# Altium integrated library TI Data Converters Digital to Analog Converter.IntLib: 1533 symbols (part 25 of 99)
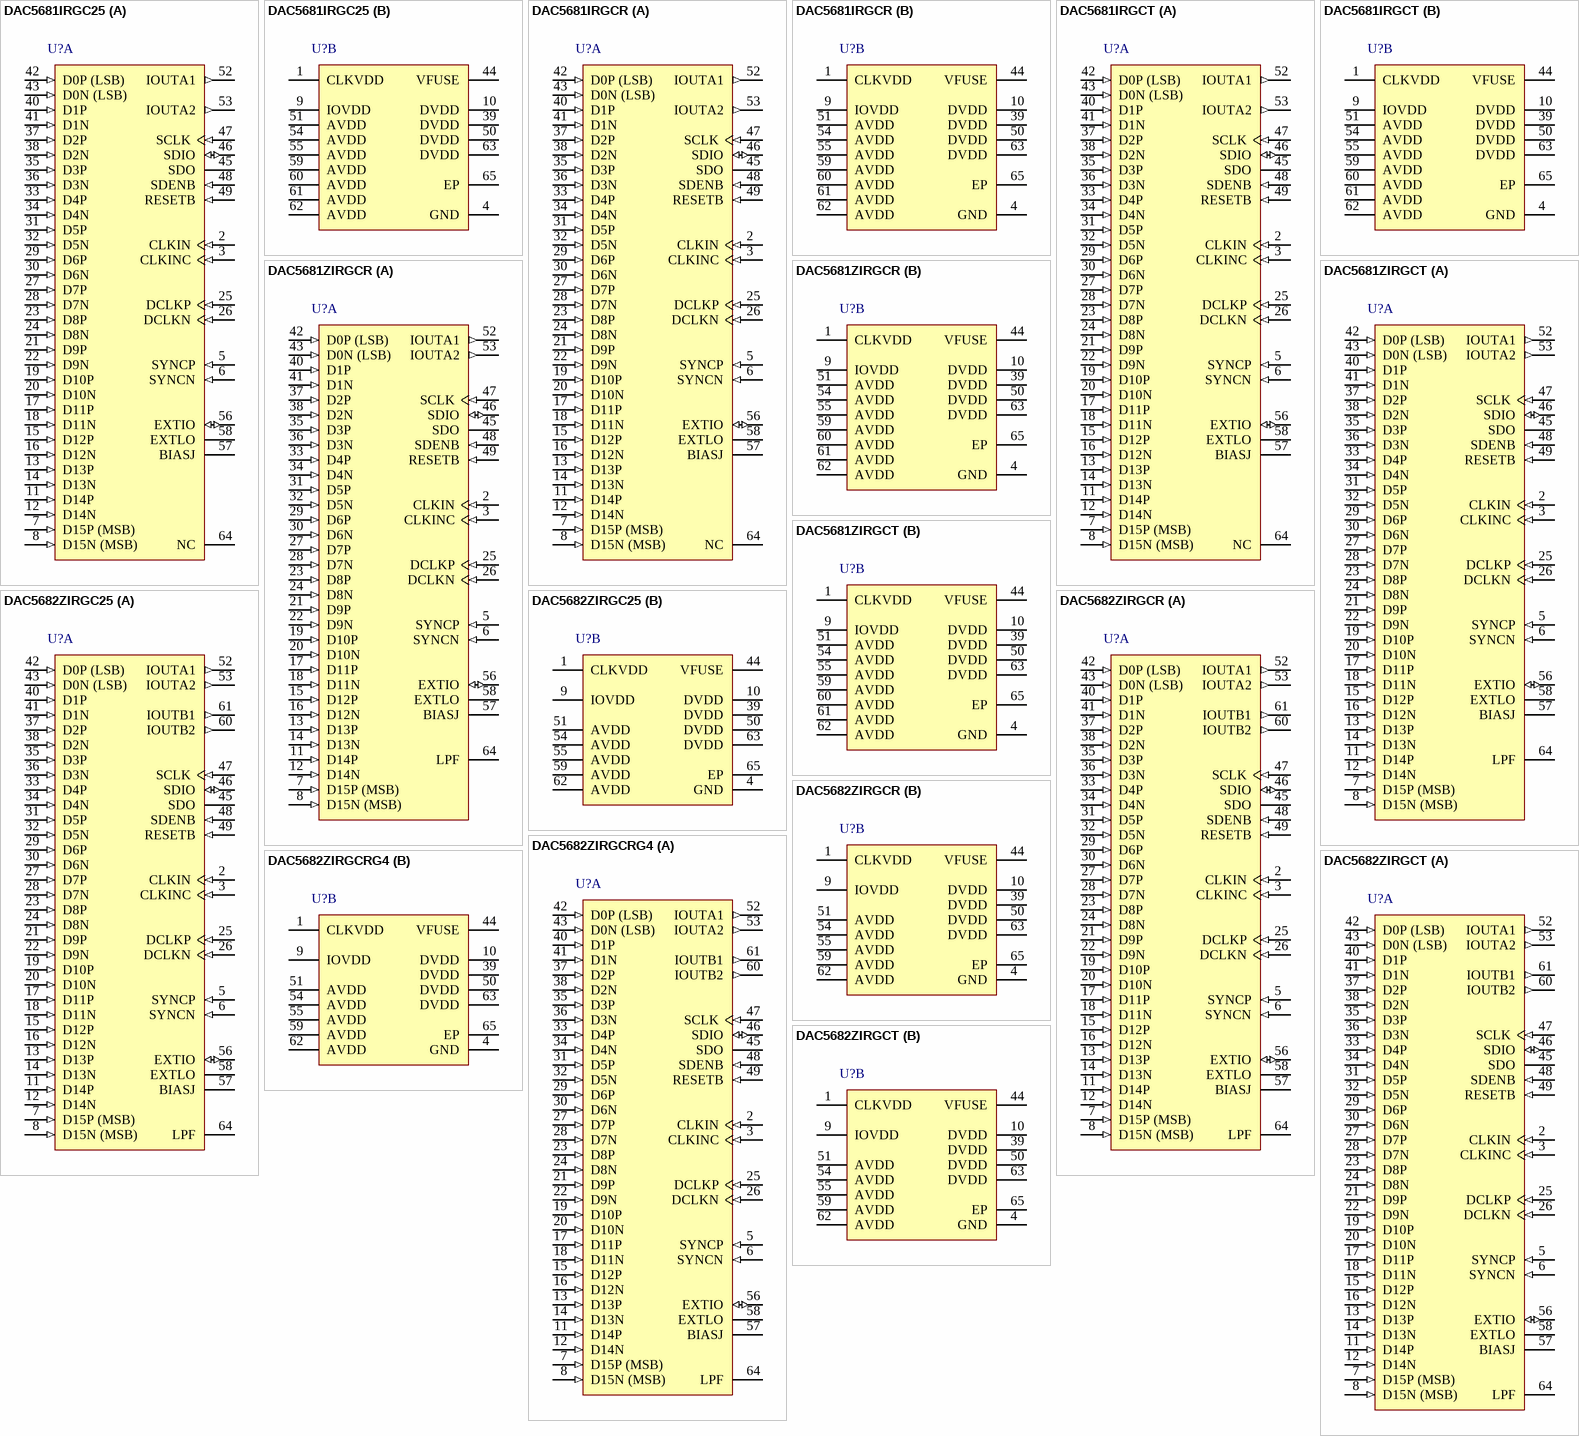
[diagram p97: symbols DAC5681IRGC25 to DAC5682ZIRGCT]

## DAC5682ZIRGC25
designator U?
16-Bit, 1 GSPS 2 x - 4 x Interpolating Dual-Channel DAC, -40 to 85 degC, 64-pin QFN (RGC64), Green (RoHS & no Sb/Br); Manufacturer: Texas Instruments; PartNumber: DAC5682ZIRGC25; DAC Channels: 2; Interface: Parallel LVDS; Power Consumption(Typ)(mW): 1310; Resolution(Bits): 16; Settling Time(us): 0.0104; SFDR(dB): 81; SNR(dB): 75; SubFamily: High Speed DAC (>10MSPS); DatasheetVersion: SLLS853E; PackageVersion: 4204106/F, 11/2011; PackageReference: RGC64-7400X7400TP; PackageDescription: 64-Pin Plastic Quad Flatpack No-Lead, Body 9 x 9 mm, Pitch 0.5 mm; Supplier 1: Digi-Key; Supplier Part Number 1: DAC5682ZIRGC25-ND; Supplier 2: Mouser; Supplier Part Number 2: 595-DAC5682ZIRGC25; Eco-Plan: Green (RoHS & no Sb/Br); Mounting Technology: Surface Mount; ComponentLink1Description: Manufacturer URL; ComponentLink1URL: http://www.ti.com/; ComponentLink2Description: Datasheet; ComponentLink2URL: http://www.ti.com/general/docs/lit/getliterature.tsp?genericPartNumber=DAC5682Z&fileType=pdf; ComponentLink3Description: Package Specification; ComponentLink3URL: http://www.ti.com/litv/pdf/mpqf125e
footprint TI-RGC64-7400X7400TP_V (QFN, 64-Leads, Body 9x9mm, Pitch 0.5mm, Thermal Pad 7.4x7.4mm, TI Recommended)
part A pins: 2 CLKIN (in) "Positive external clock input with a self-bias of approximately CLKVDD/2.", 3 CLKINC (in) "Complementary external clock input. (See the CLKIN description)", 5 SYNCP (in) "LVDS SYNC positive input data. The SYNCP/N LVDS pair has an internal 100 ohm termination resistor. By default, the SYNCP/N input must be logic ‘1’ to enable a DAC analog output. See the LVDS SYNCP/N Operation paragr(See Datasheet)", 6 SYNCN (in) "LVDS SYNC negative input data.", 7 D15P (MSB) (in) "LVDS positive input data bits 0 through 15.Each positive/negative LVDS pair has an internal 100 ohm termination resistor. Order of bus can be reversed via rev_bus bit in CONFIG5 register. Data format relative to DCLKP/N (See Datasheet)", 8 D15N (MSB) (in) "LVDS negative input data bits 0 through 15. (See D[15:0]P description above) D15N is most significant data bit (MSB) - pin 8   D0N is least significant data bit (LSB) - pin 43", 11 D14P (in) "LVDS positive input data bits 0 through 15.Each positive/negative LVDS pair has an internal 100 ohm termination resistor. Order of bus can be reversed via rev_bus bit in CONFIG5 register. Data format relative to DCLKP/N (See Datasheet)", 12 D14N (in) "LVDS negative input data bits 0 through 15. (See D[15:0]P description above) D15N is most significant data bit (MSB) - pin 8   D0N is least significant data bit (LSB) - pin 43", 13 D13P (in) "LVDS positive input data bits 0 through 15.Each positive/negative LVDS pair has an internal 100 ohm termination resistor. Order of bus can be reversed via rev_bus bit in CONFIG5 register. Data format relative to DCLKP/N (See Datasheet)", 14 D13N (in) "LVDS negative input data bits 0 through 15. (See D[15:0]P description above) D15N is most significant data bit (MSB) - pin 8   D0N is least significant data bit (LSB) - pin 43", 15 D12P (in) "LVDS positive input data bits 0 through 15.Each positive/negative LVDS pair has an internal 100 ohm termination resistor. Order of bus can be reversed via rev_bus bit in CONFIG5 register. Data format relative to DCLKP/N (See Datasheet)", 16 D12N (in) "LVDS negative input data bits 0 through 15. (See D[15:0]P description above) D15N is most significant data bit (MSB) - pin 8   D0N is least significant data bit (LSB) - pin 43", 17 D11P (in) "LVDS positive input data bits 0 through 15.Each positive/negative LVDS pair has an internal 100 ohm termination resistor. Order of bus can be reversed via rev_bus bit in CONFIG5 register. Data format relative to DCLKP/N (See Datasheet)", 18 D11N (in) "LVDS negative input data bits 0 through 15. (See D[15:0]P description above) D15N is most significant data bit (MSB) - pin 8   D0N is least significant data bit (LSB) - pin 43", 19 D10P (in) "LVDS positive input data bits 0 through 15.Each positive/negative LVDS pair has an internal 100 ohm termination resistor. Order of bus can be reversed via rev_bus bit in CONFIG5 register. Data format relative to DCLKP/N (See Datasheet)", 20 D10N (in) "LVDS negative input data bits 0 through 15. (See D[15:0]P description above) D15N is most significant data bit (MSB) - pin 8   D0N is least significant data bit (LSB) - pin 43", 21 D9P (in) "LVDS positive input data bits 0 through 15.Each positive/negative LVDS pair has an internal 100 ohm termination resistor. Order of bus can be reversed via rev_bus bit in CONFIG5 register. Data format relative to DCLKP/N (See Datasheet)", 22 D9N (in) "LVDS negative input data bits 0 through 15. (See D[15:0]P description above) D15N is most significant data bit (MSB) - pin 8   D0N is least significant data bit (LSB) - pin 43", 23 D8P (in) "LVDS positive input data bits 0 through 15.Each positive/negative LVDS pair has an internal 100 ohm termination resistor. Order of bus can be reversed via rev_bus bit in CONFIG5 register. Data format relative to DCLKP/N (See Datasheet)", 24 D8N (in) "LVDS negative input data bits 0 through 15. (See D[15:0]P description above) D15N is most significant data bit (MSB) - pin 8   D0N is least significant data bit (LSB) - pin 43", 25 DCLKP (in) "LVDS positive input clock. Unlike the other LVDS inputs, the DCLKP/N pair is self-biased to approximately DVDD/2 and does not have an internal termination resistor in order to optimize operation of the DLL circuit.See the (See Datasheet)", 26 DCLKN (in) "LVDS negative input clock. (See the DCLKP description)", 27 D7P (in) "LVDS positive input data bits 0 through 15.Each positive/negative LVDS pair has an internal 100 ohm termination resistor. Order of bus can be reversed via rev_bus bit in CONFIG5 register. Data format relative to DCLKP/N (See Datasheet)", 28 D7N (in) "LVDS negative input data bits 0 through 15. (See D[15:0]P description above) D15N is most significant data bit (MSB) - pin 8   D0N is least significant data bit (LSB) - pin 43", 29 D6P (in) "LVDS positive input data bits 0 through 15.Each positive/negative LVDS pair has an internal 100 ohm termination resistor. Order of bus can be reversed via rev_bus bit in CONFIG5 register. Data format relative to DCLKP/N (See Datasheet)", 30 D6N (in) "LVDS negative input data bits 0 through 15. (See D[15:0]P description above) D15N is most significant data bit (MSB) - pin 8   D0N is least significant data bit (LSB) - pin 43", 31 D5P (in) "LVDS positive input data bits 0 through 15.Each positive/negative LVDS pair has an internal 100 ohm termination resistor. Order of bus can be reversed via rev_bus bit in CONFIG5 register. Data format relative to DCLKP/N (See Datasheet)", 32 D5N (in) "LVDS negative input data bits 0 through 15. (See D[15:0]P description above) D15N is most significant data bit (MSB) - pin 8   D0N is least significant data bit (LSB) - pin 43", 33 D4P (in) "LVDS positive input data bits 0 through 15.Each positive/negative LVDS pair has an internal 100 ohm termination resistor. Order of bus can be reversed via rev_bus bit in CONFIG5 register. Data format relative to DCLKP/N (See Datasheet)", 34 D4N (in) "LVDS negative input data bits 0 through 15. (See D[15:0]P description above) D15N is most significant data bit (MSB) - pin 8   D0N is least significant data bit (LSB) - pin 43", 35 D3P (in) "LVDS positive input data bits 0 through 15.Each positive/negative LVDS pair has an internal 100 ohm termination resistor. Order of bus can be reversed via rev_bus bit in CONFIG5 register. Data format relative to DCLKP/N (See Datasheet)", 36 D3N (in) "LVDS negative input data bits 0 through 15. (See D[15:0]P description above) D15N is most significant data bit (MSB) - pin 8   D0N is least significant data bit (LSB) - pin 43", 37 D2P (in) "LVDS positive input data bits 0 through 15.Each positive/negative LVDS pair has an internal 100 ohm termination resistor. Order of bus can be reversed via rev_bus bit in CONFIG5 register. Data format relative to DCLKP/N (See Datasheet)", 38 D2N (in) "LVDS negative input data bits 0 through 15. (See D[15:0]P description above) D15N is most significant data bit (MSB) - pin 8   D0N is least significant data bit (LSB) - pin 43", 40 D1P (in) "LVDS positive input data bits 0 through 15.Each positive/negative LVDS pair has an internal 100 ohm termination resistor. Order of bus can be reversed via rev_bus bit in CONFIG5 register. Data format relative to DCLKP/N (See Datasheet)", 41 D1N (in) "LVDS negative input data bits 0 through 15. (See D[15:0]P description above) D15N is most significant data bit (MSB) - pin 8   D0N is least significant data bit (LSB) - pin 43", 42 D0P (LSB) (in) "LVDS positive input data bits 0 through 15.Each positive/negative LVDS pair has an internal 100 ohm termination resistor. Order of bus can be reversed via rev_bus bit in CONFIG5 register. Data format relative to DCLKP/N (See Datasheet)", 43 D0N (LSB) (in) "LVDS negative input data bits 0 through 15. (See D[15:0]P description above) D15N is most significant data bit (MSB) - pin 8   D0N is least significant data bit (LSB) - pin 43", 45 SDO (hiz) "Uni-directional serial interface data in 4-pin mode (CONFIG5 sif4). The SDO pin is in high-impedance state in 3-pin interface mode (default), but can optionally be used as a status output pin via CONFIG14 SDO_func_sel(2:0). (See Datasheet)", 46 SDIO (io) "Bi-directional serial interface data in 3-pin mode (default). In 4-pin interface mode (CONFIG5 sif4), the SDIO pin is an input only. Internal pull-down.", 47 SCLK (in) "Serial interface clock. Internal pull-down", 48 SDENB (in) "Active low serial data enable, always an input to the DAC5681. Internal pull-up.", 49 RESETB (in) "Resets the chip when low. Internal pull-up.", 52 IOUTA1 (out) "DAC current output. An offset binary data pattern of 0x0000 at the DAC input results in a full scale current sink and the least positive voltage on the IOUTA1 pin. Similarly, a 0xFFFF data input results in a 0 mA current (See Datasheet)", 53 IOUTA2 (out) "DAC complementary current output. The IOUTA2 has the opposite behavior of the IOUTA1 described above. An input data value of 0x0000 results in a 0mA sink and the most positive voltage on the IOUTA2 pin.", 56 EXTIO (io) "Used as external reference input when internal reference is disabled (i.e., EXTLO connected to AVDD). Used as 1.2V internal reference output when EXTLO = GND, requires a 0.1 uF decoupling capacitor to AGND when used as (See Datasheet)", 57 BIASJ "Full-scale output current bias. For 20mA full-scale output current, connect a 960 ohm resistor to GND.", 58 EXTLO "Connect to GND for internal reference, or AVDD for external reference.", 60 IOUTB2 (out) "B-Channel DAC complementary current output. See the IOUTA2 description above.", 61 IOUTB1 (out) "B-Channel DAC current output. See the IOUTA1 description above.", 64 LPF "PLL loop filter connection. If not using the clock multiplying PLL, the LPF pin may be left open. Set both PLL_bypass and PLL_sleep control bits for reduced power dissipation."
part B pins: 1 CLKVDD (power) "Internal clock buffer supply voltage. (1.8 V)", 4 GND (power) "Pin 4 and the Thermal Pad located on the bottom of the QFN package is ground for AVDD, DVDD and IOVDD supplies.", 9 IOVDD (power) "Digital I/O supply voltage (3.3V) for pins RESETB, SCLK, SDENB, SDIO, SDO.", 10 DVDD (power) "Digital supply voltage. (1.8 V)", 39 DVDD (power) "Digital supply voltage. (1.8 V)", 44 VFUSE (power) "Digital supply voltage. (1.8V) Connect to DVDD pins for normal operation. This supply pin is also used for factory fuse programming.", 50 DVDD (power) "Digital supply voltage. (1.8 V)", 51 AVDD (power) "Analog supply voltage. (3.3V)", 54 AVDD (power) "Analog supply voltage. (3.3V)", 55 AVDD (power) "Analog supply voltage. (3.3V)", 59 AVDD (power) "Analog supply voltage. (3.3V)", 62 AVDD (power) "Analog supply voltage. (3.3V)", 63 DVDD (power) "Digital supply voltage. (1.8 V)", 65 EP (power) "Pin 4 and the Thermal Pad located on the bottom of the QFN package is ground for AVDD, DVDD and IOVDD supplies."

## DAC5682ZIRGCR
designator U?
16-Bit, 1 GSPS 2 x - 4 x Interpolating Dual-Channel DAC, -40 to 85 degC, 64-pin QFN (RGC64), Green (RoHS & no Sb/Br); Manufacturer: Texas Instruments; PartNumber: DAC5682ZIRGCR; DAC Channels: 2; Interface: Parallel LVDS; Power Consumption(Typ)(mW): 1310; Resolution(Bits): 16; Settling Time(us): 0.0104; SFDR(dB): 81; SNR(dB): 75; SubFamily: High Speed DAC (>10MSPS); DatasheetVersion: SLLS853E; PackageVersion: 4204106/F, 11/2011; PackageReference: RGC64-7400X7400TP; PackageDescription: 64-Pin Plastic Quad Flatpack No-Lead, Body 9 x 9 mm, Pitch 0.5 mm; Supplier 1: Digi-Key; Supplier Part Number 1: DAC5682ZIRGCR-ND; Supplier 2: Newark; Supplier Part Number 2: 65M0701; Supplier 3: Mouser; Supplier Part Number 3: 595-DAC5682ZIRGCR; Eco-Plan: Green (RoHS & no Sb/Br); Mounting Technology: Surface Mount; ComponentLink1Description: Manufacturer URL; ComponentLink1URL: http://www.ti.com/; ComponentLink2Description: Datasheet; ComponentLink2URL: http://www.ti.com/general/docs/lit/getliterature.tsp?genericPartNumber=DAC5682Z&fileType=pdf; ComponentLink3Description: Package Specification; ComponentLink3URL: http://www.ti.com/litv/pdf/mpqf125e
footprint TI-RGC64-7400X7400TP_V (QFN, 64-Leads, Body 9x9mm, Pitch 0.5mm, Thermal Pad 7.4x7.4mm, TI Recommended)
part A pins: 2 CLKIN (in) "Positive external clock input with a self-bias of approximately CLKVDD/2.", 3 CLKINC (in) "Complementary external clock input. (See the CLKIN description)", 5 SYNCP (in) "LVDS SYNC positive input data. The SYNCP/N LVDS pair has an internal 100 ohm termination resistor. By default, the SYNCP/N input must be logic ‘1’ to enable a DAC analog output. See the LVDS SYNCP/N Operation paragr(See Datasheet)", 6 SYNCN (in) "LVDS SYNC negative input data.", 7 D15P (MSB) (in) "LVDS positive input data bits 0 through 15.Each positive/negative LVDS pair has an internal 100 ohm termination resistor. Order of bus can be reversed via rev_bus bit in CONFIG5 register. Data format relative to DCLKP/N (See Datasheet)", 8 D15N (MSB) (in) "LVDS negative input data bits 0 through 15. (See D[15:0]P description above) D15N is most significant data bit (MSB) - pin 8   D0N is least significant data bit (LSB) - pin 43", 11 D14P (in) "LVDS positive input data bits 0 through 15.Each positive/negative LVDS pair has an internal 100 ohm termination resistor. Order of bus can be reversed via rev_bus bit in CONFIG5 register. Data format relative to DCLKP/N (See Datasheet)", 12 D14N (in) "LVDS negative input data bits 0 through 15. (See D[15:0]P description above) D15N is most significant data bit (MSB) - pin 8   D0N is least significant data bit (LSB) - pin 43", 13 D13P (in) "LVDS positive input data bits 0 through 15.Each positive/negative LVDS pair has an internal 100 ohm termination resistor. Order of bus can be reversed via rev_bus bit in CONFIG5 register. Data format relative to DCLKP/N (See Datasheet)", 14 D13N (in) "LVDS negative input data bits 0 through 15. (See D[15:0]P description above) D15N is most significant data bit (MSB) - pin 8   D0N is least significant data bit (LSB) - pin 43", 15 D12P (in) "LVDS positive input data bits 0 through 15.Each positive/negative LVDS pair has an internal 100 ohm termination resistor. Order of bus can be reversed via rev_bus bit in CONFIG5 register. Data format relative to DCLKP/N (See Datasheet)", 16 D12N (in) "LVDS negative input data bits 0 through 15. (See D[15:0]P description above) D15N is most significant data bit (MSB) - pin 8   D0N is least significant data bit (LSB) - pin 43", 17 D11P (in) "LVDS positive input data bits 0 through 15.Each positive/negative LVDS pair has an internal 100 ohm termination resistor. Order of bus can be reversed via rev_bus bit in CONFIG5 register. Data format relative to DCLKP/N (See Datasheet)", 18 D11N (in) "LVDS negative input data bits 0 through 15. (See D[15:0]P description above) D15N is most significant data bit (MSB) - pin 8   D0N is least significant data bit (LSB) - pin 43", 19 D10P (in) "LVDS positive input data bits 0 through 15.Each positive/negative LVDS pair has an internal 100 ohm termination resistor. Order of bus can be reversed via rev_bus bit in CONFIG5 register. Data format relative to DCLKP/N (See Datasheet)", 20 D10N (in) "LVDS negative input data bits 0 through 15. (See D[15:0]P description above) D15N is most significant data bit (MSB) - pin 8   D0N is least significant data bit (LSB) - pin 43", 21 D9P (in) "LVDS positive input data bits 0 through 15.Each positive/negative LVDS pair has an internal 100 ohm termination resistor. Order of bus can be reversed via rev_bus bit in CONFIG5 register. Data format relative to DCLKP/N (See Datasheet)", 22 D9N (in) "LVDS negative input data bits 0 through 15. (See D[15:0]P description above) D15N is most significant data bit (MSB) - pin 8   D0N is least significant data bit (LSB) - pin 43", 23 D8P (in) "LVDS positive input data bits 0 through 15.Each positive/negative LVDS pair has an internal 100 ohm termination resistor. Order of bus can be reversed via rev_bus bit in CONFIG5 register. Data format relative to DCLKP/N (See Datasheet)", 24 D8N (in) "LVDS negative input data bits 0 through 15. (See D[15:0]P description above) D15N is most significant data bit (MSB) - pin 8   D0N is least significant data bit (LSB) - pin 43", 25 DCLKP (in) "LVDS positive input clock. Unlike the other LVDS inputs, the DCLKP/N pair is self-biased to approximately DVDD/2 and does not have an internal termination resistor in order to optimize operation of the DLL circuit.See the (See Datasheet)", 26 DCLKN (in) "LVDS negative input clock. (See the DCLKP description)", 27 D7P (in) "LVDS positive input data bits 0 through 15.Each positive/negative LVDS pair has an internal 100 ohm termination resistor. Order of bus can be reversed via rev_bus bit in CONFIG5 register. Data format relative to DCLKP/N (See Datasheet)", 28 D7N (in) "LVDS negative input data bits 0 through 15. (See D[15:0]P description above) D15N is most significant data bit (MSB) - pin 8   D0N is least significant data bit (LSB) - pin 43", 29 D6P (in) "LVDS positive input data bits 0 through 15.Each positive/negative LVDS pair has an internal 100 ohm termination resistor. Order of bus can be reversed via rev_bus bit in CONFIG5 register. Data format relative to DCLKP/N (See Datasheet)", 30 D6N (in) "LVDS negative input data bits 0 through 15. (See D[15:0]P description above) D15N is most significant data bit (MSB) - pin 8   D0N is least significant data bit (LSB) - pin 43", 31 D5P (in) "LVDS positive input data bits 0 through 15.Each positive/negative LVDS pair has an internal 100 ohm termination resistor. Order of bus can be reversed via rev_bus bit in CONFIG5 register. Data format relative to DCLKP/N (See Datasheet)", 32 D5N (in) "LVDS negative input data bits 0 through 15. (See D[15:0]P description above) D15N is most significant data bit (MSB) - pin 8   D0N is least significant data bit (LSB) - pin 43", 33 D4P (in) "LVDS positive input data bits 0 through 15.Each positive/negative LVDS pair has an internal 100 ohm termination resistor. Order of bus can be reversed via rev_bus bit in CONFIG5 register. Data format relative to DCLKP/N (See Datasheet)", 34 D4N (in) "LVDS negative input data bits 0 through 15. (See D[15:0]P description above) D15N is most significant data bit (MSB) - pin 8   D0N is least significant data bit (LSB) - pin 43", 35 D3P (in) "LVDS positive input data bits 0 through 15.Each positive/negative LVDS pair has an internal 100 ohm termination resistor. Order of bus can be reversed via rev_bus bit in CONFIG5 register. Data format relative to DCLKP/N (See Datasheet)", 36 D3N (in) "LVDS negative input data bits 0 through 15. (See D[15:0]P description above) D15N is most significant data bit (MSB) - pin 8   D0N is least significant data bit (LSB) - pin 43", 37 D2P (in) "LVDS positive input data bits 0 through 15.Each positive/negative LVDS pair has an internal 100 ohm termination resistor. Order of bus can be reversed via rev_bus bit in CONFIG5 register. Data format relative to DCLKP/N (See Datasheet)", 38 D2N (in) "LVDS negative input data bits 0 through 15. (See D[15:0]P description above) D15N is most significant data bit (MSB) - pin 8   D0N is least significant data bit (LSB) - pin 43", 40 D1P (in) "LVDS positive input data bits 0 through 15.Each positive/negative LVDS pair has an internal 100 ohm termination resistor. Order of bus can be reversed via rev_bus bit in CONFIG5 register. Data format relative to DCLKP/N (See Datasheet)", 41 D1N (in) "LVDS negative input data bits 0 through 15. (See D[15:0]P description above) D15N is most significant data bit (MSB) - pin 8   D0N is least significant data bit (LSB) - pin 43", 42 D0P (LSB) (in) "LVDS positive input data bits 0 through 15.Each positive/negative LVDS pair has an internal 100 ohm termination resistor. Order of bus can be reversed via rev_bus bit in CONFIG5 register. Data format relative to DCLKP/N (See Datasheet)", 43 D0N (LSB) (in) "LVDS negative input data bits 0 through 15. (See D[15:0]P description above) D15N is most significant data bit (MSB) - pin 8   D0N is least significant data bit (LSB) - pin 43", 45 SDO (hiz) "Uni-directional serial interface data in 4-pin mode (CONFIG5 sif4). The SDO pin is in high-impedance state in 3-pin interface mode (default), but can optionally be used as a status output pin via CONFIG14 SDO_func_sel(2:0). (See Datasheet)", 46 SDIO (io) "Bi-directional serial interface data in 3-pin mode (default). In 4-pin interface mode (CONFIG5 sif4), the SDIO pin is an input only. Internal pull-down.", 47 SCLK (in) "Serial interface clock. Internal pull-down", 48 SDENB (in) "Active low serial data enable, always an input to the DAC5681. Internal pull-up.", 49 RESETB (in) "Resets the chip when low. Internal pull-up.", 52 IOUTA1 (out) "DAC current output. An offset binary data pattern of 0x0000 at the DAC input results in a full scale current sink and the least positive voltage on the IOUTA1 pin. Similarly, a 0xFFFF data input results in a 0 mA current (See Datasheet)", 53 IOUTA2 (out) "DAC complementary current output. The IOUTA2 has the opposite behavior of the IOUTA1 described above. An input data value of 0x0000 results in a 0mA sink and the most positive voltage on the IOUTA2 pin.", 56 EXTIO (io) "Used as external reference input when internal reference is disabled (i.e., EXTLO connected to AVDD). Used as 1.2V internal reference output when EXTLO = GND, requires a 0.1 uF decoupling capacitor to AGND when used as (See Datasheet)", 57 BIASJ "Full-scale output current bias. For 20mA full-scale output current, connect a 960 ohm resistor to GND.", 58 EXTLO "Connect to GND for internal reference, or AVDD for external reference.", 60 IOUTB2 (out) "B-Channel DAC complementary current output. See the IOUTA2 description above.", 61 IOUTB1 (out) "B-Channel DAC current output. See the IOUTA1 description above.", 64 LPF "PLL loop filter connection. If not using the clock multiplying PLL, the LPF pin may be left open. Set both PLL_bypass and PLL_sleep control bits for reduced power dissipation."
part B pins: 1 CLKVDD (power) "Internal clock buffer supply voltage. (1.8 V)", 4 GND (power) "Pin 4 and the Thermal Pad located on the bottom of the QFN package is ground for AVDD, DVDD and IOVDD supplies.", 9 IOVDD (power) "Digital I/O supply voltage (3.3V) for pins RESETB, SCLK, SDENB, SDIO, SDO.", 10 DVDD (power) "Digital supply voltage. (1.8 V)", 39 DVDD (power) "Digital supply voltage. (1.8 V)", 44 VFUSE (power) "Digital supply voltage. (1.8V) Connect to DVDD pins for normal operation. This supply pin is also used for factory fuse programming.", 50 DVDD (power) "Digital supply voltage. (1.8 V)", 51 AVDD (power) "Analog supply voltage. (3.3V)", 54 AVDD (power) "Analog supply voltage. (3.3V)", 55 AVDD (power) "Analog supply voltage. (3.3V)", 59 AVDD (power) "Analog supply voltage. (3.3V)", 62 AVDD (power) "Analog supply voltage. (3.3V)", 63 DVDD (power) "Digital supply voltage. (1.8 V)", 65 EP (power) "Pin 4 and the Thermal Pad located on the bottom of the QFN package is ground for AVDD, DVDD and IOVDD supplies."

## DAC5682ZIRGCRG4
designator U?
16-Bit, 1 GSPS 2 x - 4 x Interpolating Dual-Channel DAC, -40 to 85 degC, 64-pin QFN (RGC64), Green (RoHS & no Sb/Br); Manufacturer: Texas Instruments; PartNumber: DAC5682ZIRGCRG4; DAC Channels: 2; Interface: Parallel LVDS; Power Consumption(Typ)(mW): 1310; Resolution(Bits): 16; Settling Time(us): 0.0104; SFDR(dB): 81; SNR(dB): 75; SubFamily: High Speed DAC (>10MSPS); DatasheetVersion: SLLS853E; PackageVersion: 4204106/F, 11/2011; PackageReference: RGC64-7400X7400TP; PackageDescription: 64-Pin Plastic Quad Flatpack No-Lead, Body 9 x 9 mm, Pitch 0.5 mm; Supplier 1: Digi-Key; Supplier Part Number 1: DAC5682ZIRGCRG4-ND; Supplier 2: Mouser; Supplier Part Number 2: 595-DAC5682ZIRGCRG4; Eco-Plan: Green (RoHS & no Sb/Br); Mounting Technology: Surface Mount; ComponentLink1Description: Manufacturer URL; ComponentLink1URL: http://www.ti.com/; ComponentLink2Description: Datasheet; ComponentLink2URL: http://www.ti.com/general/docs/lit/getliterature.tsp?genericPartNumber=DAC5682Z&fileType=pdf; ComponentLink3Description: Package Specification; ComponentLink3URL: http://www.ti.com/litv/pdf/mpqf125e
footprint TI-RGC64-7400X7400TP_V (QFN, 64-Leads, Body 9x9mm, Pitch 0.5mm, Thermal Pad 7.4x7.4mm, TI Recommended)
part A pins: 2 CLKIN (in) "Positive external clock input with a self-bias of approximately CLKVDD/2.", 3 CLKINC (in) "Complementary external clock input. (See the CLKIN description)", 5 SYNCP (in) "LVDS SYNC positive input data. The SYNCP/N LVDS pair has an internal 100 ohm termination resistor. By default, the SYNCP/N input must be logic ‘1’ to enable a DAC analog output. See the LVDS SYNCP/N Operation paragr(See Datasheet)", 6 SYNCN (in) "LVDS SYNC negative input data.", 7 D15P (MSB) (in) "LVDS positive input data bits 0 through 15.Each positive/negative LVDS pair has an internal 100 ohm termination resistor. Order of bus can be reversed via rev_bus bit in CONFIG5 register. Data format relative to DCLKP/N (See Datasheet)", 8 D15N (MSB) (in) "LVDS negative input data bits 0 through 15. (See D[15:0]P description above) D15N is most significant data bit (MSB) - pin 8   D0N is least significant data bit (LSB) - pin 43", 11 D14P (in) "LVDS positive input data bits 0 through 15.Each positive/negative LVDS pair has an internal 100 ohm termination resistor. Order of bus can be reversed via rev_bus bit in CONFIG5 register. Data format relative to DCLKP/N (See Datasheet)", 12 D14N (in) "LVDS negative input data bits 0 through 15. (See D[15:0]P description above) D15N is most significant data bit (MSB) - pin 8   D0N is least significant data bit (LSB) - pin 43", 13 D13P (in) "LVDS positive input data bits 0 through 15.Each positive/negative LVDS pair has an internal 100 ohm termination resistor. Order of bus can be reversed via rev_bus bit in CONFIG5 register. Data format relative to DCLKP/N (See Datasheet)", 14 D13N (in) "LVDS negative input data bits 0 through 15. (See D[15:0]P description above) D15N is most significant data bit (MSB) - pin 8   D0N is least significant data bit (LSB) - pin 43", 15 D12P (in) "LVDS positive input data bits 0 through 15.Each positive/negative LVDS pair has an internal 100 ohm termination resistor. Order of bus can be reversed via rev_bus bit in CONFIG5 register. Data format relative to DCLKP/N (See Datasheet)", 16 D12N (in) "LVDS negative input data bits 0 through 15. (See D[15:0]P description above) D15N is most significant data bit (MSB) - pin 8   D0N is least significant data bit (LSB) - pin 43", 17 D11P (in) "LVDS positive input data bits 0 through 15.Each positive/negative LVDS pair has an internal 100 ohm termination resistor. Order of bus can be reversed via rev_bus bit in CONFIG5 register. Data format relative to DCLKP/N (See Datasheet)", 18 D11N (in) "LVDS negative input data bits 0 through 15. (See D[15:0]P description above) D15N is most significant data bit (MSB) - pin 8   D0N is least significant data bit (LSB) - pin 43", 19 D10P (in) "LVDS positive input data bits 0 through 15.Each positive/negative LVDS pair has an internal 100 ohm termination resistor. Order of bus can be reversed via rev_bus bit in CONFIG5 register. Data format relative to DCLKP/N (See Datasheet)", 20 D10N (in) "LVDS negative input data bits 0 through 15. (See D[15:0]P description above) D15N is most significant data bit (MSB) - pin 8   D0N is least significant data bit (LSB) - pin 43", 21 D9P (in) "LVDS positive input data bits 0 through 15.Each positive/negative LVDS pair has an internal 100 ohm termination resistor. Order of bus can be reversed via rev_bus bit in CONFIG5 register. Data format relative to DCLKP/N (See Datasheet)", 22 D9N (in) "LVDS negative input data bits 0 through 15. (See D[15:0]P description above) D15N is most significant data bit (MSB) - pin 8   D0N is least significant data bit (LSB) - pin 43", 23 D8P (in) "LVDS positive input data bits 0 through 15.Each positive/negative LVDS pair has an internal 100 ohm termination resistor. Order of bus can be reversed via rev_bus bit in CONFIG5 register. Data format relative to DCLKP/N (See Datasheet)", 24 D8N (in) "LVDS negative input data bits 0 through 15. (See D[15:0]P description above) D15N is most significant data bit (MSB) - pin 8   D0N is least significant data bit (LSB) - pin 43", 25 DCLKP (in) "LVDS positive input clock. Unlike the other LVDS inputs, the DCLKP/N pair is self-biased to approximately DVDD/2 and does not have an internal termination resistor in order to optimize operation of the DLL circuit.See the (See Datasheet)", 26 DCLKN (in) "LVDS negative input clock. (See the DCLKP description)", 27 D7P (in) "LVDS positive input data bits 0 through 15.Each positive/negative LVDS pair has an internal 100 ohm termination resistor. Order of bus can be reversed via rev_bus bit in CONFIG5 register. Data format relative to DCLKP/N (See Datasheet)", 28 D7N (in) "LVDS negative input data bits 0 through 15. (See D[15:0]P description above) D15N is most significant data bit (MSB) - pin 8   D0N is least significant data bit (LSB) - pin 43", 29 D6P (in) "LVDS positive input data bits 0 through 15.Each positive/negative LVDS pair has an internal 100 ohm termination resistor. Order of bus can be reversed via rev_bus bit in CONFIG5 register. Data format relative to DCLKP/N (See Datasheet)", 30 D6N (in) "LVDS negative input data bits 0 through 15. (See D[15:0]P description above) D15N is most significant data bit (MSB) - pin 8   D0N is least significant data bit (LSB) - pin 43", 31 D5P (in) "LVDS positive input data bits 0 through 15.Each positive/negative LVDS pair has an internal 100 ohm termination resistor. Order of bus can be reversed via rev_bus bit in CONFIG5 register. Data format relative to DCLKP/N (See Datasheet)", 32 D5N (in) "LVDS negative input data bits 0 through 15. (See D[15:0]P description above) D15N is most significant data bit (MSB) - pin 8   D0N is least significant data bit (LSB) - pin 43", 33 D4P (in) "LVDS positive input data bits 0 through 15.Each positive/negative LVDS pair has an internal 100 ohm termination resistor. Order of bus can be reversed via rev_bus bit in CONFIG5 register. Data format relative to DCLKP/N (See Datasheet)", 34 D4N (in) "LVDS negative input data bits 0 through 15. (See D[15:0]P description above) D15N is most significant data bit (MSB) - pin 8   D0N is least significant data bit (LSB) - pin 43", 35 D3P (in) "LVDS positive input data bits 0 through 15.Each positive/negative LVDS pair has an internal 100 ohm termination resistor. Order of bus can be reversed via rev_bus bit in CONFIG5 register. Data format relative to DCLKP/N (See Datasheet)", 36 D3N (in) "LVDS negative input data bits 0 through 15. (See D[15:0]P description above) D15N is most significant data bit (MSB) - pin 8   D0N is least significant data bit (LSB) - pin 43", 37 D2P (in) "LVDS positive input data bits 0 through 15.Each positive/negative LVDS pair has an internal 100 ohm termination resistor. Order of bus can be reversed via rev_bus bit in CONFIG5 register. Data format relative to DCLKP/N (See Datasheet)", 38 D2N (in) "LVDS negative input data bits 0 through 15. (See D[15:0]P description above) D15N is most significant data bit (MSB) - pin 8   D0N is least significant data bit (LSB) - pin 43", 40 D1P (in) "LVDS positive input data bits 0 through 15.Each positive/negative LVDS pair has an internal 100 ohm termination resistor. Order of bus can be reversed via rev_bus bit in CONFIG5 register. Data format relative to DCLKP/N (See Datasheet)", 41 D1N (in) "LVDS negative input data bits 0 through 15. (See D[15:0]P description above) D15N is most significant data bit (MSB) - pin 8   D0N is least significant data bit (LSB) - pin 43", 42 D0P (LSB) (in) "LVDS positive input data bits 0 through 15.Each positive/negative LVDS pair has an internal 100 ohm termination resistor. Order of bus can be reversed via rev_bus bit in CONFIG5 register. Data format relative to DCLKP/N (See Datasheet)", 43 D0N (LSB) (in) "LVDS negative input data bits 0 through 15. (See D[15:0]P description above) D15N is most significant data bit (MSB) - pin 8   D0N is least significant data bit (LSB) - pin 43", 45 SDO (hiz) "Uni-directional serial interface data in 4-pin mode (CONFIG5 sif4). The SDO pin is in high-impedance state in 3-pin interface mode (default), but can optionally be used as a status output pin via CONFIG14 SDO_func_sel(2:0). (See Datasheet)", 46 SDIO (io) "Bi-directional serial interface data in 3-pin mode (default). In 4-pin interface mode (CONFIG5 sif4), the SDIO pin is an input only. Internal pull-down.", 47 SCLK (in) "Serial interface clock. Internal pull-down", 48 SDENB (in) "Active low serial data enable, always an input to the DAC5681. Internal pull-up.", 49 RESETB (in) "Resets the chip when low. Internal pull-up.", 52 IOUTA1 (out) "DAC current output. An offset binary data pattern of 0x0000 at the DAC input results in a full scale current sink and the least positive voltage on the IOUTA1 pin. Similarly, a 0xFFFF data input results in a 0 mA current (See Datasheet)", 53 IOUTA2 (out) "DAC complementary current output. The IOUTA2 has the opposite behavior of the IOUTA1 described above. An input data value of 0x0000 results in a 0mA sink and the most positive voltage on the IOUTA2 pin.", 56 EXTIO (io) "Used as external reference input when internal reference is disabled (i.e., EXTLO connected to AVDD). Used as 1.2V internal reference output when EXTLO = GND, requires a 0.1 uF decoupling capacitor to AGND when used as (See Datasheet)", 57 BIASJ "Full-scale output current bias. For 20mA full-scale output current, connect a 960 ohm resistor to GND.", 58 EXTLO "Connect to GND for internal reference, or AVDD for external reference.", 60 IOUTB2 (out) "B-Channel DAC complementary current output. See the IOUTA2 description above.", 61 IOUTB1 (out) "B-Channel DAC current output. See the IOUTA1 description above.", 64 LPF "PLL loop filter connection. If not using the clock multiplying PLL, the LPF pin may be left open. Set both PLL_bypass and PLL_sleep control bits for reduced power dissipation."
part B pins: 1 CLKVDD (power) "Internal clock buffer supply voltage. (1.8 V)", 4 GND (power) "Pin 4 and the Thermal Pad located on the bottom of the QFN package is ground for AVDD, DVDD and IOVDD supplies.", 9 IOVDD (power) "Digital I/O supply voltage (3.3V) for pins RESETB, SCLK, SDENB, SDIO, SDO.", 10 DVDD (power) "Digital supply voltage. (1.8 V)", 39 DVDD (power) "Digital supply voltage. (1.8 V)", 44 VFUSE (power) "Digital supply voltage. (1.8V) Connect to DVDD pins for normal operation. This supply pin is also used for factory fuse programming.", 50 DVDD (power) "Digital supply voltage. (1.8 V)", 51 AVDD (power) "Analog supply voltage. (3.3V)", 54 AVDD (power) "Analog supply voltage. (3.3V)", 55 AVDD (power) "Analog supply voltage. (3.3V)", 59 AVDD (power) "Analog supply voltage. (3.3V)", 62 AVDD (power) "Analog supply voltage. (3.3V)", 63 DVDD (power) "Digital supply voltage. (1.8 V)", 65 EP (power) "Pin 4 and the Thermal Pad located on the bottom of the QFN package is ground for AVDD, DVDD and IOVDD supplies."

## DAC5682ZIRGCT
designator U?
16-Bit, 1 GSPS 2 x - 4 x Interpolating Dual-Channel DAC, -40 to 85 degC, 64-pin QFN (RGC64), Green (RoHS & no Sb/Br); Manufacturer: Texas Instruments; PartNumber: DAC5682ZIRGCT; DAC Channels: 2; Interface: Parallel LVDS; Power Consumption(Typ)(mW): 1310; Resolution(Bits): 16; Settling Time(us): 0.0104; SFDR(dB): 81; SNR(dB): 75; SubFamily: High Speed DAC (>10MSPS); DatasheetVersion: SLLS853E; PackageVersion: 4204106/F, 11/2011; PackageReference: RGC64-7400X7400TP; PackageDescription: 64-Pin Plastic Quad Flatpack No-Lead, Body 9 x 9 mm, Pitch 0.5 mm; Supplier 1: Digi-Key; Supplier Part Number 1: 296-22919-2-ND; Supplier 2: Digi-Key; Supplier Part Number 2: 296-22919-1-ND; Supplier 3: Farnell; Supplier Part Number 3: 1536690; Supplier 4: Newark; Supplier Part Number 4: 65M0702; Supplier 5: Mouser; Supplier Part Number 5: 595-DAC5682ZIRGCT; Eco-Plan: Green (RoHS & no Sb/Br); Mounting Technology: Surface Mount; ComponentLink1Description: Manufacturer URL; ComponentLink1URL: http://www.ti.com/; ComponentLink2Description: Datasheet; ComponentLink2URL: http://www.ti.com/general/docs/lit/getliterature.tsp?genericPartNumber=DAC5682Z&fileType=pdf; ComponentLink3Description: Package Specification; ComponentLink3URL: http://www.ti.com/litv/pdf/mpqf125e
footprint TI-RGC64-7400X7400TP_V (QFN, 64-Leads, Body 9x9mm, Pitch 0.5mm, Thermal Pad 7.4x7.4mm, TI Recommended)
part A pins: 2 CLKIN (in) "Positive external clock input with a self-bias of approximately CLKVDD/2.", 3 CLKINC (in) "Complementary external clock input. (See the CLKIN description)", 5 SYNCP (in) "LVDS SYNC positive input data. The SYNCP/N LVDS pair has an internal 100 ohm termination resistor. By default, the SYNCP/N input must be logic ‘1’ to enable a DAC analog output. See the LVDS SYNCP/N Operation paragr(See Datasheet)", 6 SYNCN (in) "LVDS SYNC negative input data.", 7 D15P (MSB) (in) "LVDS positive input data bits 0 through 15.Each positive/negative LVDS pair has an internal 100 ohm termination resistor. Order of bus can be reversed via rev_bus bit in CONFIG5 register. Data format relative to DCLKP/N (See Datasheet)", 8 D15N (MSB) (in) "LVDS negative input data bits 0 through 15. (See D[15:0]P description above) D15N is most significant data bit (MSB) - pin 8   D0N is least significant data bit (LSB) - pin 43", 11 D14P (in) "LVDS positive input data bits 0 through 15.Each positive/negative LVDS pair has an internal 100 ohm termination resistor. Order of bus can be reversed via rev_bus bit in CONFIG5 register. Data format relative to DCLKP/N (See Datasheet)", 12 D14N (in) "LVDS negative input data bits 0 through 15. (See D[15:0]P description above) D15N is most significant data bit (MSB) - pin 8   D0N is least significant data bit (LSB) - pin 43", 13 D13P (in) "LVDS positive input data bits 0 through 15.Each positive/negative LVDS pair has an internal 100 ohm termination resistor. Order of bus can be reversed via rev_bus bit in CONFIG5 register. Data format relative to DCLKP/N (See Datasheet)", 14 D13N (in) "LVDS negative input data bits 0 through 15. (See D[15:0]P description above) D15N is most significant data bit (MSB) - pin 8   D0N is least significant data bit (LSB) - pin 43", 15 D12P (in) "LVDS positive input data bits 0 through 15.Each positive/negative LVDS pair has an internal 100 ohm termination resistor. Order of bus can be reversed via rev_bus bit in CONFIG5 register. Data format relative to DCLKP/N (See Datasheet)", 16 D12N (in) "LVDS negative input data bits 0 through 15. (See D[15:0]P description above) D15N is most significant data bit (MSB) - pin 8   D0N is least significant data bit (LSB) - pin 43", 17 D11P (in) "LVDS positive input data bits 0 through 15.Each positive/negative LVDS pair has an internal 100 ohm termination resistor. Order of bus can be reversed via rev_bus bit in CONFIG5 register. Data format relative to DCLKP/N (See Datasheet)", 18 D11N (in) "LVDS negative input data bits 0 through 15. (See D[15:0]P description above) D15N is most significant data bit (MSB) - pin 8   D0N is least significant data bit (LSB) - pin 43", 19 D10P (in) "LVDS positive input data bits 0 through 15.Each positive/negative LVDS pair has an internal 100 ohm termination resistor. Order of bus can be reversed via rev_bus bit in CONFIG5 register. Data format relative to DCLKP/N (See Datasheet)", 20 D10N (in) "LVDS negative input data bits 0 through 15. (See D[15:0]P description above) D15N is most significant data bit (MSB) - pin 8   D0N is least significant data bit (LSB) - pin 43", 21 D9P (in) "LVDS positive input data bits 0 through 15.Each positive/negative LVDS pair has an internal 100 ohm termination resistor. Order of bus can be reversed via rev_bus bit in CONFIG5 register. Data format relative to DCLKP/N (See Datasheet)", 22 D9N (in) "LVDS negative input data bits 0 through 15. (See D[15:0]P description above) D15N is most significant data bit (MSB) - pin 8   D0N is least significant data bit (LSB) - pin 43", 23 D8P (in) "LVDS positive input data bits 0 through 15.Each positive/negative LVDS pair has an internal 100 ohm termination resistor. Order of bus can be reversed via rev_bus bit in CONFIG5 register. Data format relative to DCLKP/N (See Datasheet)", 24 D8N (in) "LVDS negative input data bits 0 through 15. (See D[15:0]P description above) D15N is most significant data bit (MSB) - pin 8   D0N is least significant data bit (LSB) - pin 43", 25 DCLKP (in) "LVDS positive input clock. Unlike the other LVDS inputs, the DCLKP/N pair is self-biased to approximately DVDD/2 and does not have an internal termination resistor in order to optimize operation of the DLL circuit.See the (See Datasheet)", 26 DCLKN (in) "LVDS negative input clock. (See the DCLKP description)", 27 D7P (in) "LVDS positive input data bits 0 through 15.Each positive/negative LVDS pair has an internal 100 ohm termination resistor. Order of bus can be reversed via rev_bus bit in CONFIG5 register. Data format relative to DCLKP/N (See Datasheet)", 28 D7N (in) "LVDS negative input data bits 0 through 15. (See D[15:0]P description above) D15N is most significant data bit (MSB) - pin 8   D0N is least significant data bit (LSB) - pin 43", 29 D6P (in) "LVDS positive input data bits 0 through 15.Each positive/negative LVDS pair has an internal 100 ohm termination resistor. Order of bus can be reversed via rev_bus bit in CONFIG5 register. Data format relative to DCLKP/N (See Datasheet)", 30 D6N (in) "LVDS negative input data bits 0 through 15. (See D[15:0]P description above) D15N is most significant data bit (MSB) - pin 8   D0N is least significant data bit (LSB) - pin 43", 31 D5P (in) "LVDS positive input data bits 0 through 15.Each positive/negative LVDS pair has an internal 100 ohm termination resistor. Order of bus can be reversed via rev_bus bit in CONFIG5 register. Data format relative to DCLKP/N (See Datasheet)", 32 D5N (in) "LVDS negative input data bits 0 through 15. (See D[15:0]P description above) D15N is most significant data bit (MSB) - pin 8   D0N is least significant data bit (LSB) - pin 43", 33 D4P (in) "LVDS positive input data bits 0 through 15.Each positive/negative LVDS pair has an internal 100 ohm termination resistor. Order of bus can be reversed via rev_bus bit in CONFIG5 register. Data format relative to DCLKP/N (See Datasheet)", 34 D4N (in) "LVDS negative input data bits 0 through 15. (See D[15:0]P description above) D15N is most significant data bit (MSB) - pin 8   D0N is least significant data bit (LSB) - pin 43", 35 D3P (in) "LVDS positive input data bits 0 through 15.Each positive/negative LVDS pair has an internal 100 ohm termination resistor. Order of bus can be reversed via rev_bus bit in CONFIG5 register. Data format relative to DCLKP/N (See Datasheet)", 36 D3N (in) "LVDS negative input data bits 0 through 15. (See D[15:0]P description above) D15N is most significant data bit (MSB) - pin 8   D0N is least significant data bit (LSB) - pin 43", 37 D2P (in) "LVDS positive input data bits 0 through 15.Each positive/negative LVDS pair has an internal 100 ohm termination resistor. Order of bus can be reversed via rev_bus bit in CONFIG5 register. Data format relative to DCLKP/N (See Datasheet)", 38 D2N (in) "LVDS negative input data bits 0 through 15. (See D[15:0]P description above) D15N is most significant data bit (MSB) - pin 8   D0N is least significant data bit (LSB) - pin 43", 40 D1P (in) "LVDS positive input data bits 0 through 15.Each positive/negative LVDS pair has an internal 100 ohm termination resistor. Order of bus can be reversed via rev_bus bit in CONFIG5 register. Data format relative to DCLKP/N (See Datasheet)", 41 D1N (in) "LVDS negative input data bits 0 through 15. (See D[15:0]P description above) D15N is most significant data bit (MSB) - pin 8   D0N is least significant data bit (LSB) - pin 43", 42 D0P (LSB) (in) "LVDS positive input data bits 0 through 15.Each positive/negative LVDS pair has an internal 100 ohm termination resistor. Order of bus can be reversed via rev_bus bit in CONFIG5 register. Data format relative to DCLKP/N (See Datasheet)", 43 D0N (LSB) (in) "LVDS negative input data bits 0 through 15. (See D[15:0]P description above) D15N is most significant data bit (MSB) - pin 8   D0N is least significant data bit (LSB) - pin 43", 45 SDO (hiz) "Uni-directional serial interface data in 4-pin mode (CONFIG5 sif4). The SDO pin is in high-impedance state in 3-pin interface mode (default), but can optionally be used as a status output pin via CONFIG14 SDO_func_sel(2:0). (See Datasheet)", 46 SDIO (io) "Bi-directional serial interface data in 3-pin mode (default). In 4-pin interface mode (CONFIG5 sif4), the SDIO pin is an input only. Internal pull-down.", 47 SCLK (in) "Serial interface clock. Internal pull-down", 48 SDENB (in) "Active low serial data enable, always an input to the DAC5681. Internal pull-up.", 49 RESETB (in) "Resets the chip when low. Internal pull-up.", 52 IOUTA1 (out) "DAC current output. An offset binary data pattern of 0x0000 at the DAC input results in a full scale current sink and the least positive voltage on the IOUTA1 pin. Similarly, a 0xFFFF data input results in a 0 mA current (See Datasheet)", 53 IOUTA2 (out) "DAC complementary current output. The IOUTA2 has the opposite behavior of the IOUTA1 described above. An input data value of 0x0000 results in a 0mA sink and the most positive voltage on the IOUTA2 pin.", 56 EXTIO (io) "Used as external reference input when internal reference is disabled (i.e., EXTLO connected to AVDD). Used as 1.2V internal reference output when EXTLO = GND, requires a 0.1 uF decoupling capacitor to AGND when used as (See Datasheet)", 57 BIASJ "Full-scale output current bias. For 20mA full-scale output current, connect a 960 ohm resistor to GND.", 58 EXTLO "Connect to GND for internal reference, or AVDD for external reference.", 60 IOUTB2 (out) "B-Channel DAC complementary current output. See the IOUTA2 description above.", 61 IOUTB1 (out) "B-Channel DAC current output. See the IOUTA1 description above.", 64 LPF "PLL loop filter connection. If not using the clock multiplying PLL, the LPF pin may be left open. Set both PLL_bypass and PLL_sleep control bits for reduced power dissipation."
part B pins: 1 CLKVDD (power) "Internal clock buffer supply voltage. (1.8 V)", 4 GND (power) "Pin 4 and the Thermal Pad located on the bottom of the QFN package is ground for AVDD, DVDD and IOVDD supplies.", 9 IOVDD (power) "Digital I/O supply voltage (3.3V) for pins RESETB, SCLK, SDENB, SDIO, SDO.", 10 DVDD (power) "Digital supply voltage. (1.8 V)", 39 DVDD (power) "Digital supply voltage. (1.8 V)", 44 VFUSE (power) "Digital supply voltage. (1.8V) Connect to DVDD pins for normal operation. This supply pin is also used for factory fuse programming.", 50 DVDD (power) "Digital supply voltage. (1.8 V)", 51 AVDD (power) "Analog supply voltage. (3.3V)", 54 AVDD (power) "Analog supply voltage. (3.3V)", 55 AVDD (power) "Analog supply voltage. (3.3V)", 59 AVDD (power) "Analog supply voltage. (3.3V)", 62 AVDD (power) "Analog supply voltage. (3.3V)", 63 DVDD (power) "Digital supply voltage. (1.8 V)", 65 EP (power) "Pin 4 and the Thermal Pad located on the bottom of the QFN package is ground for AVDD, DVDD and IOVDD supplies."

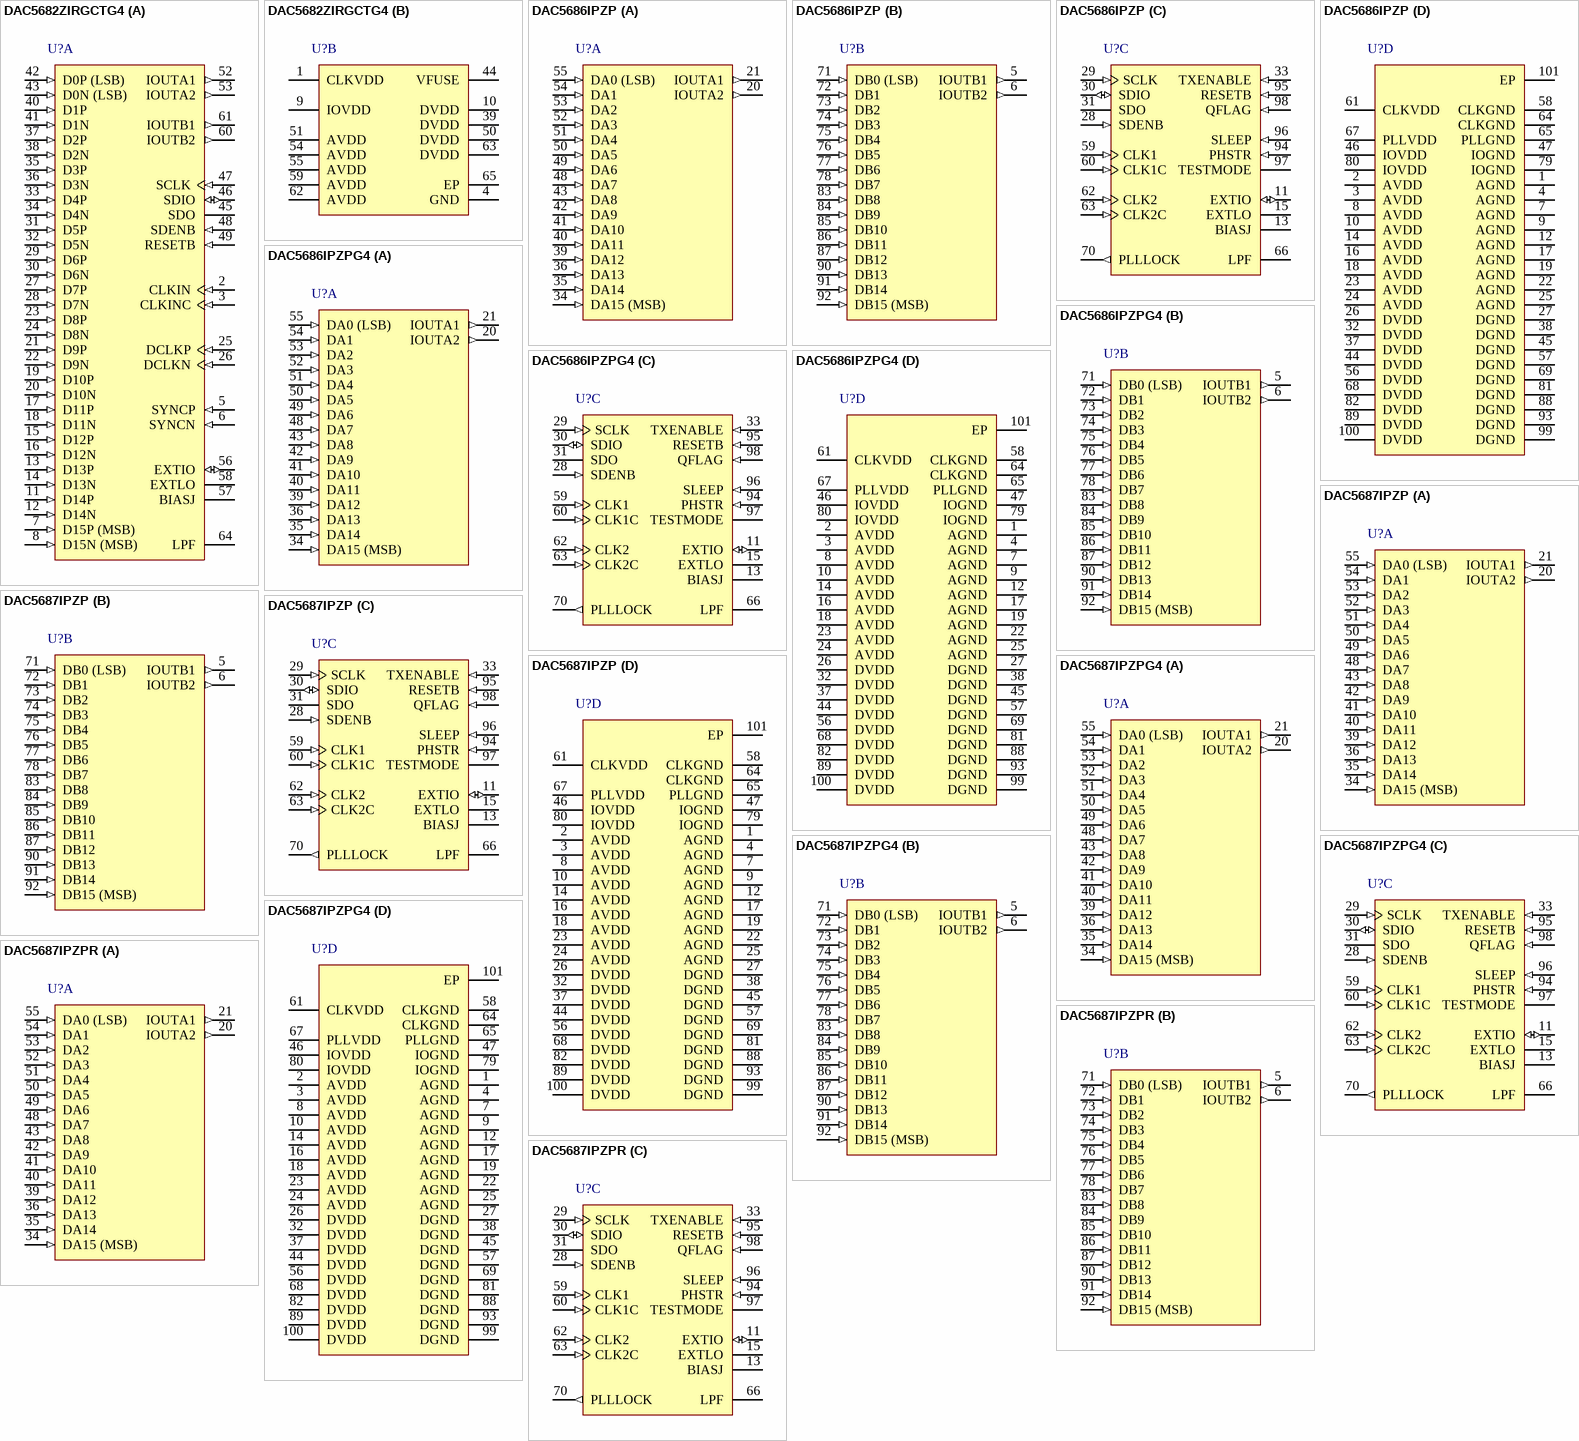
[diagram p20: symbols DAC5682ZIRGCTG4 to DAC5687IPZPR]